# Altium footprint library SparkFun-Buzzard.PCBLIB: 53 footprints (part 4 of 4)
Each footprint in its own frame and in the unit in brackets; x right, y up, seen from the top. Pads: shape width x height; smd on the part's side, far side on the other; paste and mask are expansions set on the pad; w line width, h text height; cw(c..) or ccw(c..) is an arc to the next point about the centre after c.
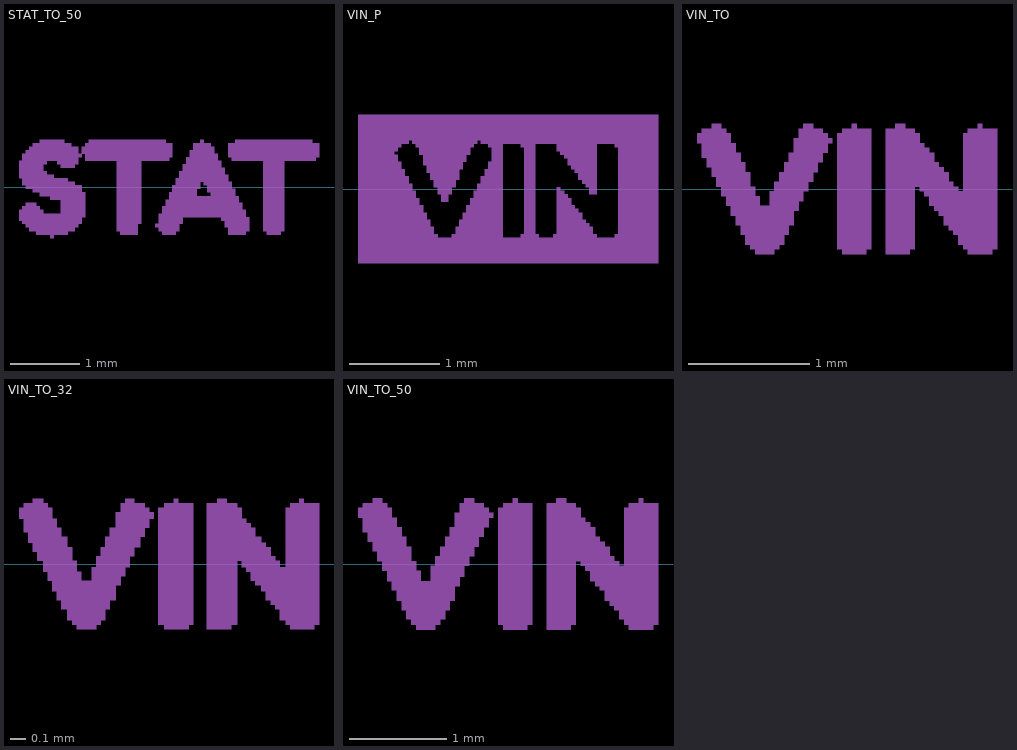
[diagram p3: the footprints below, top view; thin cyan lines are the x and y axes]

## STAT_TO_50 [mm]
tPlace:
  drawing of 123 lines, arcs and shapes, not listed

## VIN_P [mm]
tPlace:
  drawing of 165 lines, arcs and shapes, not listed

## VIN_TO [mm]
tPlace:
  drawing of 126 lines, arcs and shapes, not listed

## VIN_TO_32 [mm]
tPlace:
  drawing of 126 lines, arcs and shapes, not listed

## VIN_TO_50 [mm]
tPlace:
  drawing of 126 lines, arcs and shapes, not listed